# Altium footprint library PcbLib2.PcbLib: 1 footprints
Each footprint in its own frame and in the unit in brackets; x right, y up, seen from the top. Pads: shape width x height; smd on the part's side, far side on the other; paste and mask are expansions set on the pad; w line width, h text height; cw(c..) or ccw(c..) is an arc to the next point about the centre after c.
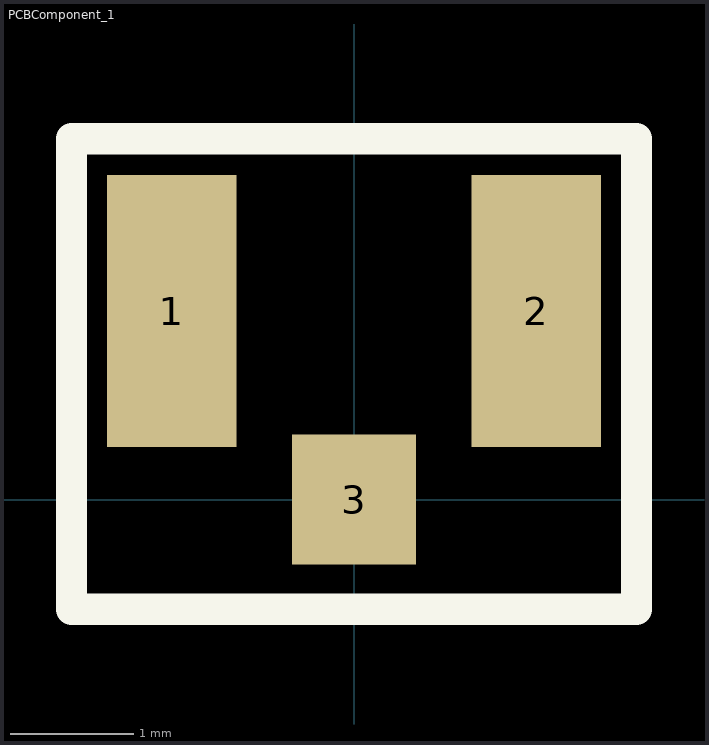
[diagram p0: the footprint, top view; thin cyan lines are the x and y axes]

## PCBComponent_1 [mm]
pads (3):
  rect 1.05x2.2 smd: 1(-1.475,1.525) 2(1.475,1.525)
  rect 1x1.05 smd: 3(0,0)
Top Overlay:
  lines w0.254: -2.286,-0.889 -2.286,2.921 2.286,2.921 2.286,-0.889 -2.286,-0.889